# EAGLE library part LM334 (library common)
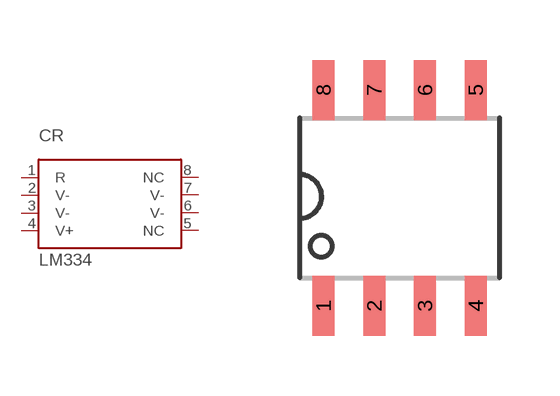
[diagram p6: symbol with the pads of R-PDSO-G8; footprint R-PDSO-G8]

Designator prefix CR

## LM334  [R-PDSO-G8]
1  R
2  V-
3  V-
4  V+
5  NC
6  V-
7  V-
8  NC

## Footprint R-PDSO-G8 (pad centres in mm)
smd 0.55 x 1.5: 1 -1.905,-2.7; 2 -0.635,-2.7; 3 0.635,-2.7; 4 1.905,-2.7; 5 1.905,2.7; 6 0.635,2.7; 7 -0.635,2.7; 8 -1.905,2.7